# EAGLE library part ADV7184 (library analog-devices)
Multiformat SDTV Video Decoder with Fast Switch Overlay Support Auto generated by make-symbol-device-package-bsdl.ulp Rev. 33 Source: http://www.analog.com/static/imported-files/data_sheets/ADV7184.pdf
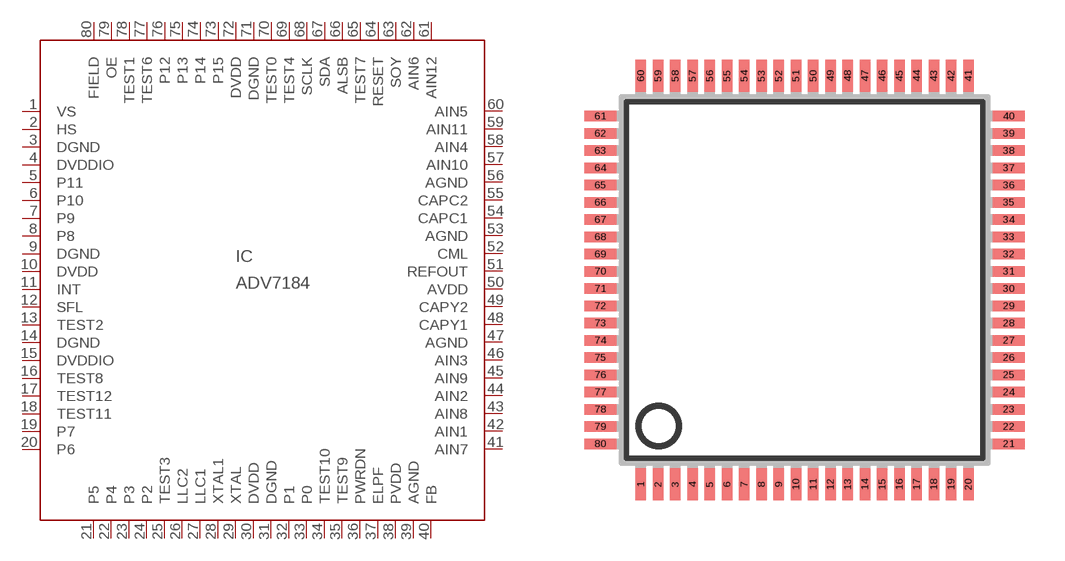
[diagram p92: symbol with the pads of LQFP80; footprint LQFP80]

Designator prefix IC

## ADV7184 (MPN: ADV7184BSTZ; OC_FARNELL: 1117101; OC_NEWARK: 31M3981)  [LQFP80]
1  VS  out
2  HS  out
3  DGND  pwr
4  DVDDIO  pwr
5  P11  out
6  P10  out
7  P9  out
8  P8  out
9  DGND  pwr
10  DVDD  pwr
11  INT  out
12  SFL  out
13  TEST2  pas
14  DGND  pwr
15  DVDDIO  pwr
16  TEST8  pas
17  TEST12  pas
18  TEST11  pas
19  P7  out
20  P6  out
21  P5  out
22  P4  out
23  P3  out
24  P2  out
25  TEST3  pas
26  LLC2  out
27  LLC1  out
28  XTAL1  out
29  XTAL  in
30  DVDD  pwr
31  DGND  pwr
32  P1  out
33  P0  out
34  TEST10  pas
35  TEST9  pas
36  PWRDN  in
37  ELPF  in
38  PVDD  pwr
39  AGND  pwr
40  FB  in
41  AIN7  in
42  AIN1  in
43  AIN8  in
44  AIN2  in
45  AIN9  in
46  AIN3  in
47  AGND  pwr
48  CAPY1  in
49  CAPY2  in
50  AVDD  pwr
51  REFOUT  out
52  CML  out
53  AGND  pwr
54  CAPC1  in
55  CAPC2  in
56  AGND  pwr
57  AIN10  in
58  AIN4  in
59  AIN11  in
60  AIN5  in
61  AIN12  in
62  AIN6  in
63  SOY  in
64  RESET  in
65  TEST7  pas
66  ALSB  in
67  SDA
68  SCLK  in
69  TEST4  pas
70  TEST0  pas
71  DGND  pwr
72  DVDD  pwr
73  P15  out
74  P14  out
75  P13  out
76  P12  out
77  TEST6  pas
78  TEST1  pas
79  OE  in
80  FIELD  out

## Footprint LQFP80 (pad centres in mm)
80 Lead LQFP_ED (SQ-80) (ST-80) Source: www.analog.com .. AD9852_b.pdf
smd 0.4 x 1.2: 1 -6.175,-7.7; 2 -5.525,-7.7; 3 -4.875,-7.7; 4 -4.225,-7.7; 5 -3.575,-7.7; 6 -2.925,-7.7; 7 -2.275,-7.7; 8 -1.625,-7.7; 9 -0.975,-7.7; 10 -0.325,-7.7; 11 0.325,-7.7; 12 0.975,-7.7; 13 1.625,-7.7; 14 2.275,-7.7; 15 2.925,-7.7; 16 3.575,-7.7; 17 4.225,-7.7; 18 4.875,-7.7; 19 5.525,-7.7; 20 6.175,-7.7; 41 6.175,7.7; 42 5.525,7.7; 43 4.875,7.7; 44 4.225,7.7; 45 3.575,7.7; 46 2.925,7.7; 47 2.275,7.7; 48 1.625,7.7; 49 0.975,7.7; 50 0.325,7.7; 51 -0.325,7.7; 52 -0.975,7.7; 53 -1.625,7.7; 54 -2.275,7.7; 55 -2.925,7.7; 56 -3.575,7.7; 57 -4.225,7.7; 58 -4.875,7.7; 59 -5.525,7.7; 60 -6.175,7.7
smd 1.2 x 0.4: 21 7.7,-6.175; 22 7.7,-5.525; 23 7.7,-4.875; 24 7.7,-4.225; 25 7.7,-3.575; 26 7.7,-2.925; 27 7.7,-2.275; 28 7.7,-1.625; 29 7.7,-0.975; 30 7.7,-0.325; 31 7.7,0.325; 32 7.7,0.975; 33 7.7,1.625; 34 7.7,2.275; 35 7.7,2.925; 36 7.7,3.575; 37 7.7,4.225; 38 7.7,4.875; 39 7.7,5.525; 40 7.7,6.175; 61 -7.7,6.175; 62 -7.7,5.525; 63 -7.7,4.875; 64 -7.7,4.225; 65 -7.7,3.575; 66 -7.7,2.925; 67 -7.7,2.275; 68 -7.7,1.625; 69 -7.7,0.975; 70 -7.7,0.325; 71 -7.7,-0.325; 72 -7.7,-0.975; 73 -7.7,-1.625; 74 -7.7,-2.275; 75 -7.7,-2.925; 76 -7.7,-3.575; 77 -7.7,-4.225; 78 -7.7,-4.875; 79 -7.7,-5.525; 80 -7.7,-6.175